# EAGLE library part XS1-L01A-LQ64 (library xmos)
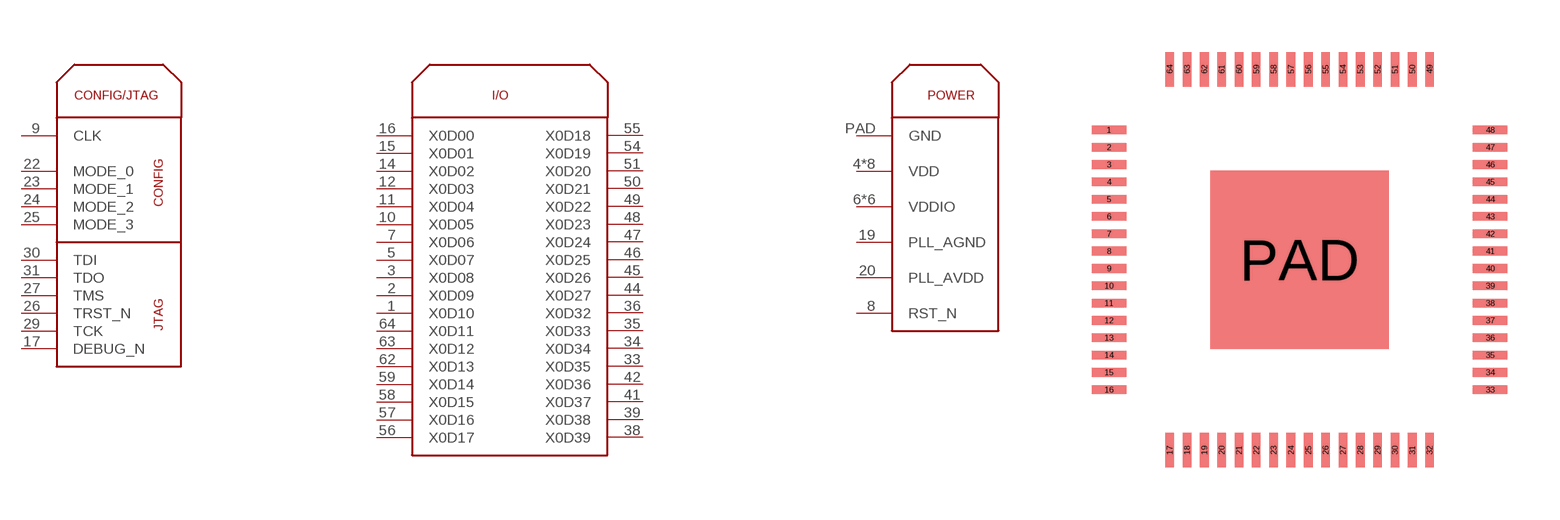
[diagram p2: symbol with the pads of LQFP64; footprint LQFP64]

Designator prefix -; gates G$1=XS1-L01A-LQ64_CONFIG/JTAG G$2=XS1-L01A-LQ64_I/O G$3=XS1-L01A-LQ64_POWER

## XS1-L01A-LQ64  [LQFP64]
1  G$2:X0D10
2  G$2:X0D09
3  G$2:X0D08
4  G$3:VDD
5  G$2:X0D07
6  G$3:VDDIO
7  G$2:X0D06
8  G$3:RST_N
9  G$1:CLK
10  G$2:X0D05
11  G$2:X0D04
12  G$2:X0D03
13  G$3:VDD
14  G$2:X0D02
15  G$2:X0D01
16  G$2:X0D00
17  G$1:DEBUG_N
18  G$3:VDDIO
19  G$3:PLL_AGND
20  G$3:PLL_AVDD
21  G$3:VDD
22  G$1:MODE_0
23  G$1:MODE_1
24  G$1:MODE_2
25  G$1:MODE_3
26  G$1:TRST_N
27  G$1:TMS
28  G$3:VDD
29  G$1:TCK
30  G$1:TDI
31  G$1:TDO
32  G$3:VDDIO
33  G$2:X0D35
34  G$2:X0D34
35  G$2:X0D33
36  G$2:X0D32
37  G$3:VDD
38  G$2:X0D39
39  G$2:X0D38
40  G$3:VDDIO
41  G$2:X0D37
42  G$2:X0D36
43  G$3:VDD
44  G$2:X0D27
45  G$2:X0D26
46  G$2:X0D25
47  G$2:X0D24
48  G$2:X0D23
49  G$2:X0D22
50  G$2:X0D21
51  G$2:X0D20
52  G$3:VDD
53  G$3:VDDIO
54  G$2:X0D19
55  G$2:X0D18
56  G$2:X0D17
57  G$2:X0D16
58  G$2:X0D15
59  G$2:X0D14
60  G$3:VDDIO
61  G$3:VDD
62  G$2:X0D13
63  G$2:X0D12
64  G$2:X0D11
PAD  G$3:GND

## Footprint LQFP64 (pad centres in mm)
smd 1 x 0.25: 1 -5.5,3.75; 2 -5.5,3.25; 3 -5.5,2.75; 4 -5.5,2.25; 5 -5.5,1.75; 6 -5.5,1.25; 7 -5.5,0.75; 8 -5.5,0.25; 9 -5.5,-0.25; 10 -5.5,-0.75; 11 -5.5,-1.25; 12 -5.5,-1.75; 13 -5.5,-2.25; 14 -5.5,-2.75; 15 -5.5,-3.25; 16 -5.5,-3.75; 33 5.5,-3.75; 34 5.5,-3.25; 35 5.5,-2.75; 36 5.5,-2.25; 37 5.5,-1.75; 38 5.5,-1.25; 39 5.5,-0.75; 40 5.5,-0.25; 41 5.5,0.25; 42 5.5,0.75; 43 5.5,1.25; 44 5.5,1.75; 45 5.5,2.25; 46 5.5,2.75; 47 5.5,3.25; 48 5.5,3.75
smd 0.25 x 1: 17 -3.75,-5.5; 18 -3.25,-5.5; 19 -2.75,-5.5; 20 -2.25,-5.5; 21 -1.75,-5.5; 22 -1.25,-5.5; 23 -0.75,-5.5; 24 -0.25,-5.5; 25 0.25,-5.5; 26 0.75,-5.5; 27 1.25,-5.5; 28 1.75,-5.5; 29 2.25,-5.5; 30 2.75,-5.5; 31 3.25,-5.5; 32 3.75,-5.5; 49 3.75,5.5; 50 3.25,5.5; 51 2.75,5.5; 52 2.25,5.5; 53 1.75,5.5; 54 1.25,5.5; 55 0.75,5.5; 56 0.25,5.5; 57 -0.25,5.5; 58 -0.75,5.5; 59 -1.25,5.5; 60 -1.75,5.5; 61 -2.25,5.5; 62 -2.75,5.5; 63 -3.25,5.5; 64 -3.75,5.5
smd 5.15 x 5.15: PAD 0,0